# Altium footprint library BMA_Lib.PcbLib: 14 footprints
Each footprint in its own frame and in the unit in brackets; x right, y up, seen from the top. Pads: shape width x height; smd on the part's side, far side on the other; paste and mask are expansions set on the pad; w line width, h text height; cw(c..) or ccw(c..) is an arc to the next point about the centre after c.
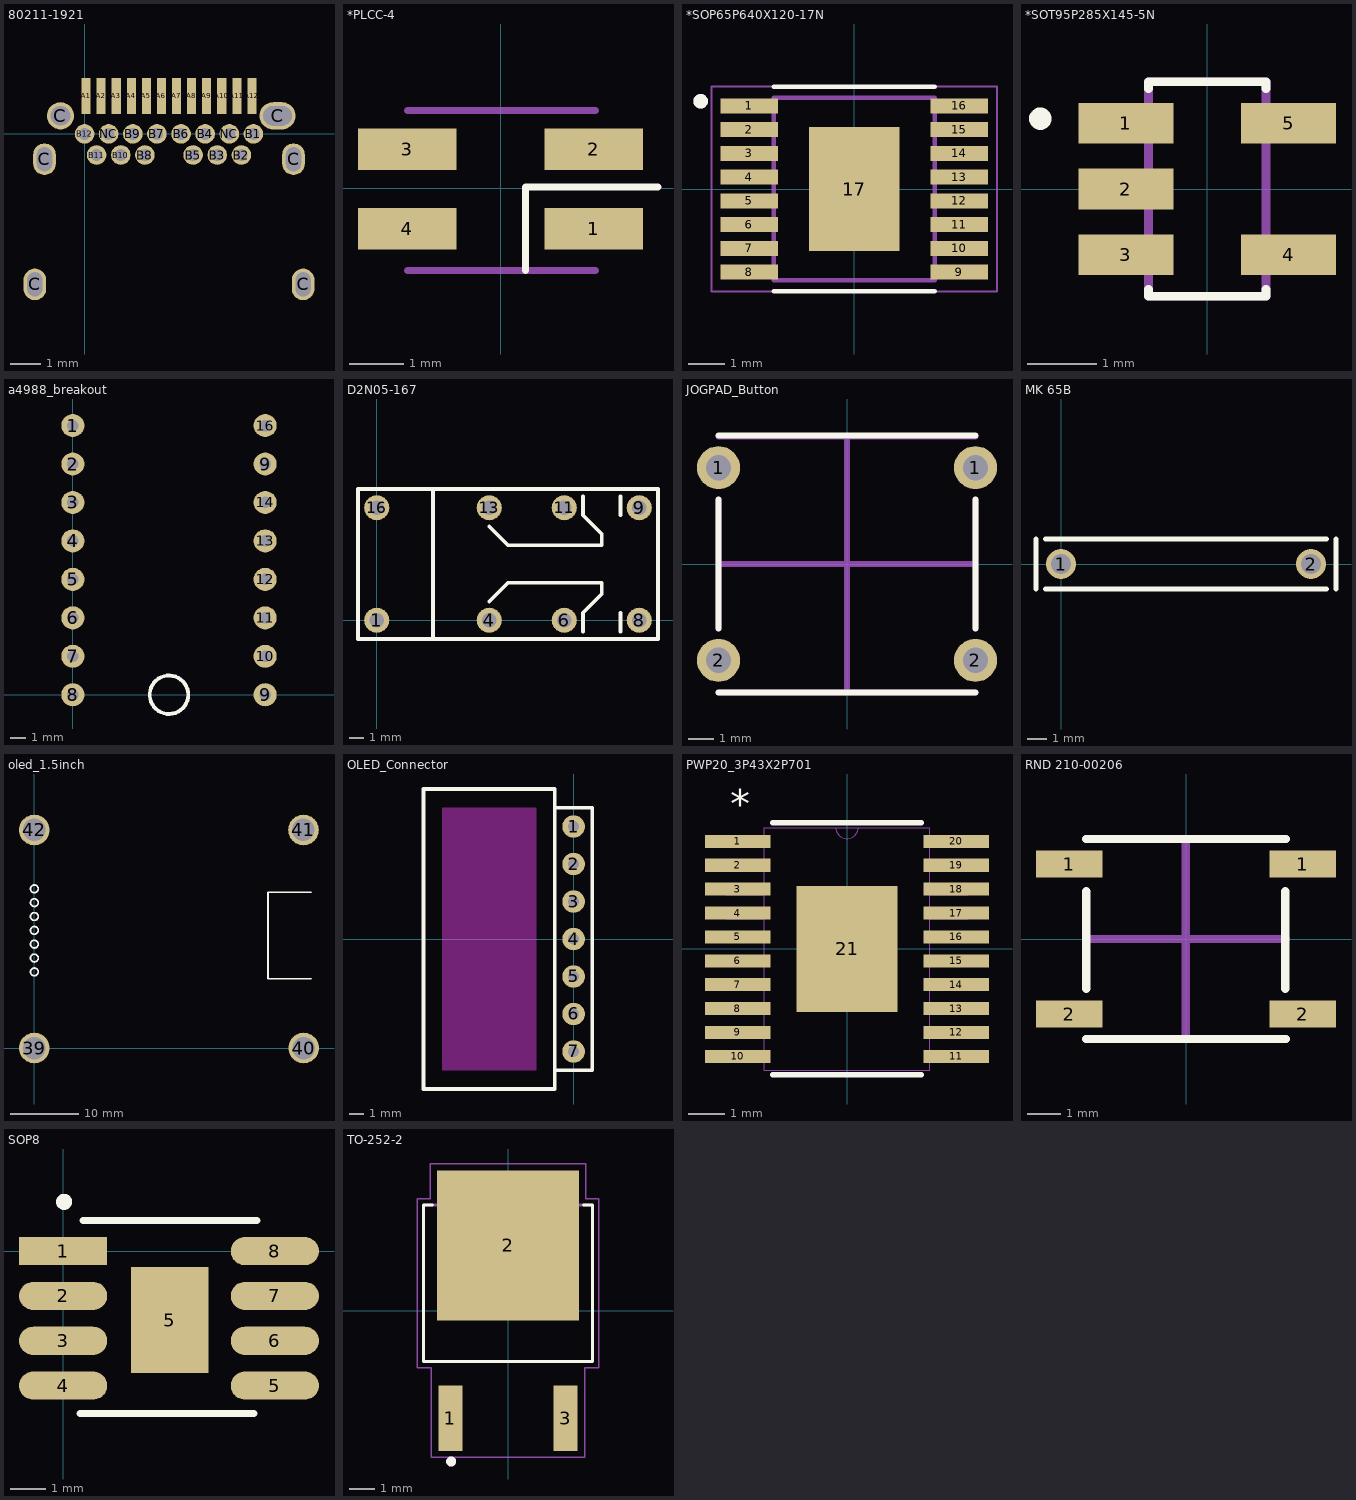
[diagram p0: the footprints below, top view; thin cyan lines are the x and y axes]

## 80211-1921 [mm] "BELLWETHER USB C HOR"
pads (32):
  rect 0.3x1.2 smd: A1(0.05,1.26) A2(0.55,1.26) A3(1.05,1.26) A4(1.55,1.26) A5(2.05,1.26) A6(2.55,1.26) A7(3.05,1.26) A8(3.55,1.26) A9(4.05,1.26) A10(4.55,1.26) A11(5.05,1.26) A12(5.55,1.26)
  round 0.65 hole 0.4: B1(5.6,0) B2(5.2,-0.7) B3(4.4,-0.7) B4(4,0) B5(3.6,-0.7) B6(3.2,0) B7(2.4,0) B8(2,-0.7) B9(1.6,0) B10(1.2,-0.7) B11(0.4,-0.7) B12(0,0) NC(0.8,0) NC(4.8,0)
  oval 0.75x1.05 hole 0.8 slot 0.5 at 0 deg: C(-1.65,-4.99) C(-1.33,-0.84) C(6.93,-0.84) C(7.25,-4.99)
  round 0.9 hole 0.65: C(-0.8,0.6)
  oval 1.2x0.9 hole 0.65 slot 0.95 at 0 deg: C(6.4,0.6)

## *PLCC-4 [mm]
pads (4):
  rect 1.8x0.75 smd: 1(1.698,-0.737) 2(1.698,0.713) 3(-1.702,0.713) 4(-1.702,-0.737)
Top Overlay:
  lines w0.127: 0.457,-1.499 0.457,0.025 2.87,0.025
Mechanical 4:
  lines w0.127: -1.702,-1.499 0.584,-1.499 1.727,-1.499 ; -1.702,1.422 1.727,1.422
3D body "User Library-Osram_Led_PLCC4.step": height 1.95, standoff 0, extent -1.757,-1.438 1.743,1.362

## *SOP65P640X120-17N [mm]
pads (17):
  rect 1.57x0.41 smd: 1(-2.87,2.275) 2(-2.87,1.625) 3(-2.87,0.975) 4(-2.87,0.325) 5(-2.87,-0.325) 6(-2.87,-0.975) 7(-2.87,-1.625) 8(-2.87,-2.275) 9(2.87,-2.275) 10(2.87,-1.625) 11(2.87,-0.975) 12(2.87,-0.325) 13(2.87,0.325) 14(2.87,0.975) 15(2.87,1.625) 16(2.87,2.275)
  rect 2.48x3.4 smd: 17(0,0)
Top Overlay:
  circle w0.2: c-4.2,2.4 r0.1
  lines w0.127: -2.2,-2.8 2.2,-2.8 ; -2.2,2.8 2.2,2.8
Top Paste:
  region: -0.8,1.075 0.8,1.075 0.8,-1.075 -0.8,-1.075
Mechanical 4:
  circle w0.2: c-4.2,2.4 r0.1
  circle w0.2: c-4.2,2.4 r0.1
  lines w0.127: -2.2,-2.5 -2.2,2.5 ; -2.2,-2.5 2.2,-2.5 ; -2.2,-2.5 -2.2,2.5 ; -2.2,-2.5 2.2,-2.5 ; -2.2,2.5 2.2,2.5 ; -2.2,2.5 2.2,2.5 ; 2.2,-2.5 2.2,2.5 ; 2.2,-2.5 2.2,2.5
Mechanical 16:
  lines w0.05: -3.905,-2.8 -3.905,2.8 3.905,2.8 3.905,-2.8 -3.905,-2.8
3D body "User Library-TSSOP-16 5_1x4_4.STEP": height 1.1, standoff 0, extent -3.2,-2.55 3.2,2.55

## *SOT95P285X145-5N [mm]
pads (5):
  rect 1.37x0.59 smd: 1(-1.175,0.95) 2(-1.175,0) 3(-1.175,-0.95) 4(1.175,-0.95) 5(1.175,0.95)
Top Overlay:
  circle w0.2: c-2.413,1.016 r0.062
  lines w0.127: -0.85,-1.45 -0.85,-1.55 0.85,-1.55 0.85,-1.45 ; -0.85,1.45 -0.85,1.55 0.85,1.55 0.85,1.45
Mechanical 4:
  lines w0.127: -0.85,-1.55 0.85,-1.55 ; -0.85,-1.55 -0.85,1.55 ; -0.85,-1.55 0.85,-1.55 ; -0.85,-1.55 -0.85,1.55 ; -0.85,1.55 0.85,1.55 ; -0.85,1.55 0.85,1.55 ; 0.85,-1.55 0.85,1.55 ; 0.85,-1.55 0.85,1.55
3D body "CircuitWorks-SOT-23-5.step": height 1.1, standoff 0, extent -1.25,-1.5 1.25,1.5

## a4988_breakout [mil]
pads (16):
  round 60 hole 30: 1(0,700) 2(0,600) 3(0,500) 4(0,400) 5(0,300) 6(0,200) 7(0,100) 8(0,0) 9(500,0) 9(500,600) 10(500,100) 11(500,200) 12(500,300) 13(500,400) 14(500,500) 16(500,700)
Top Overlay:
  circle w10: c250,0 r50

## D2N05-167 [mm]
pads (8):
  round 1.7 hole 1: 1(0,0) 4(7.62,0) 6(12.7,0) 8(17.78,0) 9(17.78,7.62) 11(12.7,7.62) 13(7.62,7.62) 16(0,7.62)
Top Overlay:
  lines w0.254: 3.81,-1.27 3.81,8.89 ; 7.62,1.27 8.89,2.54 15.24,2.54 15.24,1.778 13.97,0.508 13.97,-0.762 ; 7.62,6.35 8.89,5.08 15.24,5.08 15.24,5.842 13.97,7.112 13.97,8.382 ; 16.51,-0.762 16.51,0.508 ; 16.51,7.112 16.51,8.382 ; -1.27,-1.27 0,-1.27 17.78,-1.27 19.05,-1.27 19.05,0 19.05,7.62 19.05,8.89 17.78,8.89 0,8.89 -1.27,8.89 -1.27,7.62 -1.27,-1.27
Mechanical 1:
  lines w0.254: -1.27,0 -1.27,7.62

## JOGPAD_Button [mm]
pads (4):
  round 1.7 hole 1: 1(-5.08,3.81) 1(5.08,3.81) 2(-5.08,-3.81) 2(5.08,-3.81)
Top Overlay:
  lines w0.254: -5.08,-5.08 5.08,-5.08 ; -5.08,-2.54 -5.08,2.54 ; -5.08,5.08 5.08,5.08 ; 5.08,-2.54 5.08,2.54
Mechanical 1:
  lines w0.254: -5.08,-5.08 5.08,-5.08 ; -5.08,-2.54 -5.08,2.54 ; -5.08,0 5.08,0 ; -5.08,5.05 5.08,5.05 ; 0,-5.08 0,5.08 ; 5.08,-2.54 5.08,2.54

## MK 65B [mil]
pads (2):
  round 60 hole 39.37: 1(0,0) 2(500,0)
Top Overlay:
  lines w10: -50,-50 -50,50 ; -31.5,-50 531.5,-50 ; -31.5,50 531.5,50 ; 550,-50 550,50

## oled_1.5inch [mm]
pads (4):
  round 4.5 hole 3.3: 39(0,0) 40(39.53,0) 41(39.5,32) 42(0,32)
Top Overlay:
  circle w0.254: c0,11.176 r0.568
  circle w0.254: c0,23.368 r0.568
  circle w0.254: c0,21.336 r0.568
  circle w0.254: c0,13.208 r0.568
  circle w0.254: c0,15.24 r0.568
  circle w0.254: c0,17.272 r0.568
  circle w0.254: c0,19.304 r0.568
  lines w0.254: 40.64,10.16 34.29,10.16 34.29,22.86 40.64,22.86

## OLED_Connector [mil]
pads (7):
  round 60 hole 30: 1(0,300) 2(0,200) 3(0,100) 4(0,0) 5(0,-100) 6(0,-200) 7(0,-300)
Top Overlay:
  lines w10: -50,-350 -50,-400 -400,-400 -400,400 -50,400 -50,350 ; -50,-350 50,-350 50,350 -50,350 ; -50,-350 -50,350
Keep-Out Layer:
  board cut-out: -350,350 -100,350 -100,-350 -350,-350

## PWP20_3P43X2P701 [mil]
pads (21):
  rect 70x14 smd: 1(-117,115.16) 2(-117,89.57) 3(-117,63.98) 4(-117,38.39) 5(-117,12.8) 6(-117,-12.8) 7(-117,-38.39) 8(-117,-63.98) 9(-117,-89.57) 10(-117,-115.16) 11(117,-115.16) 12(117,-89.57) 13(117,-63.98) 14(117,-38.39) 15(117,-12.8) 16(117,12.8) 17(117,38.39) 18(117,63.98) 19(117,89.57) 20(117,115.16)
  rect 108.27x135.04 smd: 21(0,0)
Top Overlay:
  lines w6: -79.41,-135 79.41,-135 ; -79.41,135 79.41,135
  text "*" at -125,140 h31.25
Mechanical 1:
  lines w1: -12,130 ccw(c0,130) 12,130 ; -130,-121.16 -130,-109.16 -88.5,-109.16 -88.5,-121.16 -130,-121.16 ; -130,-95.57 -130,-83.57 -88.5,-83.57 -88.5,-95.57 -130,-95.57 ; -130,-69.98 -130,-57.98 -88.5,-57.98 -88.5,-69.98 -130,-69.98 ; -130,-44.39 -130,-32.39 -88.5,-32.39 -88.5,-44.39 -130,-44.39 ; -130,-18.8 -130,-6.8 -88.5,-6.8 -88.5,-18.8 -130,-18.8 ; -130,6.8 -130,18.8 -88.5,18.8 -88.5,6.8 -130,6.8 ; -130,32.39 -130,44.39 -88.5,44.39 -88.5,32.39 -130,32.39 ; -130,57.98 -130,69.98 -88.5,69.98 -88.5,57.98 -130,57.98 ; -130,83.57 -130,95.57 -88.5,95.57 -88.5,83.57 -130,83.57 ; -130,109.16 -130,121.16 -88.5,121.16 -88.5,109.16 -130,109.16 ; -88.5,-130 88.5,-130 88.5,130 -88.5,130 -88.5,-130 ; 88.5,-121.16 88.5,-109.16 130,-109.16 130,-121.16 88.5,-121.16 ; 88.5,-95.57 88.5,-83.57 130,-83.57 130,-95.57 88.5,-95.57 ; 88.5,-69.98 88.5,-57.98 130,-57.98 130,-69.98 88.5,-69.98 ; 88.5,-44.39 88.5,-32.39 130,-32.39 130,-44.39 88.5,-44.39 ; 88.5,-18.8 88.5,-6.8 130,-6.8 130,-18.8 88.5,-18.8 ; 88.5,6.8 88.5,18.8 130,18.8 130,6.8 88.5,6.8 ; 88.5,32.39 88.5,44.39 130,44.39 130,32.39 88.5,32.39 ; 88.5,57.98 88.5,69.98 130,69.98 130,57.98 88.5,57.98 ; 88.5,83.57 88.5,95.57 130,95.57 130,83.57 88.5,83.57 ; 88.5,109.16 88.5,121.16 130,121.16 130,109.16 88.5,109.16
3D body "PWP20_3P43X2P75_TEX-L.step": height 67.09, standoff 0, extent -130,-130 130,130

## RND 210-00206 [mm]
pads (4):
  rect 2x0.8 smd: 1(-3.505,2.265) 1(3.495,2.265) 2(-3.505,-2.235) 2(3.495,-2.235)
Top Overlay:
  lines w0.254: -3.005,-2.985 2.995,-2.985 ; -3.005,3.015 2.995,3.015 ; -2.997,-1.473 -2.997,1.448 ; 2.972,-1.473 2.972,1.448
Mechanical 1:
  lines w0.254: -2.997,0.015 2.972,0.015 ; -0.013,-2.985 -0.013,3.015

## SOP8 [mm]
pads (9):
  rect 2.5x0.8 smd: 1(0,0)
  oval 2.5x0.8 smd: 2(0,-1.27) 3(0,-2.54) 4(0,-3.81) 5(6,-3.81) 6(6,-2.54) 7(6,-1.27) 8(6,0)
  rect 2.2x3 smd: 5(3.023,-1.956)
Top Overlay:
  circle w0.254: c0.025,1.397 r0.1
  lines w0.2: 0.483,-4.597 5.41,-4.597 ; 0.559,0.864 5.486,0.864

## TO-252-2 [mm]
pads (3):
  rect 0.95x2.59 smd: 1(-2.286,-4.26) 3(2.286,-4.26)
  rect 5.63x5.94 smd: 2(0,2.59)
Top Overlay:
  circle w0.2: c-2.25,-5.969 r0.1
  lines w0.127: -3,4.19 -3.35,4.19 -3.35,-2.01 3.35,-2.01 3.35,4.19 3,4.19
Mechanical 4:
  lines w0.127: -3.35,-2.01 3.35,-2.01 ; -3.35,-2.01 -3.35,4.19 ; -3.35,-2.01 3.35,-2.01 ; -3.35,-2.01 -3.35,4.19 ; -3.35,4.19 3.35,4.19 ; -3.35,4.19 3.35,4.19 ; 3.35,-2.01 3.35,4.19 ; 3.35,-2.01 3.35,4.19
Mechanical 16:
  lines w0.05: -3.6,-2.26 -3.6,4.44 -3.07,4.44 -3.07,5.81 3.07,5.81 3.07,4.44 3.6,4.44 3.6,-2.26 3.03,-2.26 3.03,-5.81 -3.03,-5.81 -3.03,-2.26 -3.6,-2.26
3D body "TO-252-2.step": height 2.34, standoff -0.07, extent -3.27,-4.287 3.27,5.652